# Altium schematic symbol library WR-TBL_Spring Clamp.SchLib: 257 symbols (part 3 of 4)
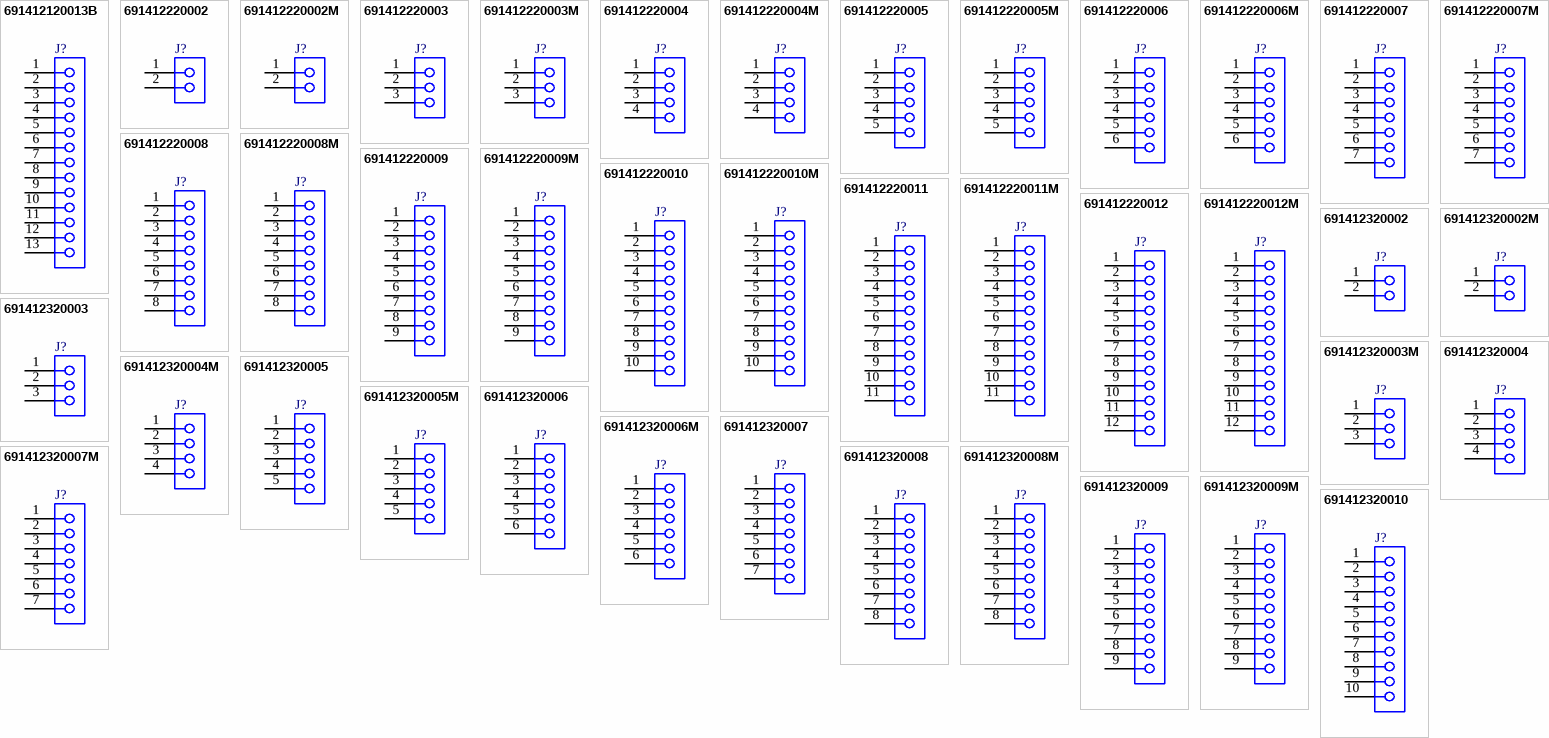
[diagram p8: symbols 691412120013B to 691412320010]

## 691412220012
designator J?
WR-TBL Serie 4122 45deg Entry, Screwless, pitch 7mm, 12p; Part Number: 691412220012; Compliance: Lead free / RoHS; Modularity: No; PCB/Cable/Panel: PCB; Pin Number: 12; Rated Current [UL]: 4A; Working Voltage [UL]: 300VAC; ComponentLink1Description: Manufacturer; ComponentLink1URL: http://www.we-online.de; ComponentLink2URL: https://katalog.we-online.de/em/datasheet/691412220012.pdf; ComponentLink2Description: Datasheet; Mounting Technology: THT; Packaging: Box; Operating Temperature: -30 to +120degC; Pitch: 7mm; Published Date: October 2019; Type: 45deg; Publisher: Wurth Elektronik; Application: Screwless
footprint 691412220012
pins: 1, 2, 3, 4, 5, 6, 7, 8, 9, 10, 11, 12

## 691412220012M
designator J?
WR-TBL Serie 4122M 45deg Entry, Screwless, pitch 7mm, 12p; Part Number: 691412220012M; Compliance: Lead free / RoHS; Modularity: No; PCB/Cable/Panel: PCB; Pin Number: 12; Rated Current [UL]: 4A; Working Voltage [UL]: 300VAC; ComponentLink1Description: Manufacturer; ComponentLink1URL: http://www.we-online.de; ComponentLink2URL: https://katalog.we-online.de/em/datasheet/691412220012M.pdf; ComponentLink2Description: Datasheet; Mounting Technology: THT; Packaging: Box; Operating Temperature: -30 to +120degC; Pitch: 7mm; Published Date: October 2019; Type: 45deg; Publisher: Wurth Elektronik; Application: Screwless
footprint 691412220012M
pins: 1, 2, 3, 4, 5, 6, 7, 8, 9, 10, 11, 12

## 691412320002
designator J?
WR-TBL Serie 4123 45deg Entry, Screwless, pitch 3.81mm, 2p; Part Number: 691412320002; Compliance: Lead free / RoHS; Modularity: No; PCB/Cable/Panel: PCB; Pin Number: 2; Rated Current [UL]: 4A; Working Voltage [UL]: 300VAC; ComponentLink1Description: Manufacturer; ComponentLink1URL: http://www.we-online.de; ComponentLink2URL: https://katalog.we-online.de/em/datasheet/691412320002.pdf; ComponentLink2Description: Datasheet; Mounting Technology: THT; Packaging: Box; Operating Temperature: -30 to +120degC; Pitch: 3.81mm; Published Date: October 2019; Type: 45deg; Publisher: Wurth Elektronik; Application: Screwless
footprint 691412320002
pins: 1, 2

## 691412320002M
designator J?
WR-TBL Serie 4123M 45deg Entry, Screwless, pitch 3.81mm, 2p; Part Number: 691412320002M; Compliance: Lead free / RoHS; Modularity: No; PCB/Cable/Panel: PCB; Pin Number: 2; Rated Current [UL]: 4A; Working Voltage [UL]: 300VAC; ComponentLink1Description: Manufacturer; ComponentLink1URL: http://www.we-online.de; ComponentLink2URL: https://katalog.we-online.de/em/datasheet/691412320002M.pdf; ComponentLink2Description: Datasheet; Mounting Technology: THT; Packaging: Box; Operating Temperature: -30 to +120degC; Pitch: 3.81mm; Published Date: October 2019; Type: 45deg; Publisher: Wurth Elektronik; Application: Screwless
footprint 691412320002M
pins: 1, 2

## 691412320003
designator J?
WR-TBL Serie 4123 45deg Entry, Screwless, pitch 3.81mm, 3p; Part Number: 691412320003; Compliance: Lead free / RoHS; Modularity: No; PCB/Cable/Panel: PCB; Pin Number: 3; Rated Current [UL]: 4A; Working Voltage [UL]: 300VAC; ComponentLink1Description: Manufacturer; ComponentLink1URL: http://www.we-online.de; ComponentLink2URL: https://katalog.we-online.de/em/datasheet/691412320003.pdf; ComponentLink2Description: Datasheet; Mounting Technology: THT; Packaging: Box; Operating Temperature: -30 to +120degC; Pitch: 3.81mm; Published Date: October 2019; Type: 45deg; Publisher: Wurth Elektronik; Application: Screwless
footprint 691412320003
pins: 1, 2, 3

## 691412320003M
designator J?
WR-TBL Serie 4123M 45deg Entry, Screwless, pitch 3.81mm, 3p; Part Number: 691412320003M; Compliance: Lead free / RoHS; Modularity: No; PCB/Cable/Panel: PCB; Pin Number: 3; Rated Current [UL]: 4A; Working Voltage [UL]: 300VAC; ComponentLink1Description: Manufacturer; ComponentLink1URL: http://www.we-online.de; ComponentLink2URL: https://katalog.we-online.de/em/datasheet/691412320003M.pdf; ComponentLink2Description: Datasheet; Mounting Technology: THT; Packaging: Box; Operating Temperature: -30 to +120degC; Pitch: 3.81mm; Published Date: October 2019; Type: 45deg; Publisher: Wurth Elektronik; Application: Screwless
footprint 691412320003M
pins: 1, 2, 3

## 691412320004
designator J?
WR-TBL Serie 4123 45deg Entry, Screwless, pitch 3.81mm, 4p; Part Number: 691412320004; Compliance: Lead free / RoHS; Modularity: No; PCB/Cable/Panel: PCB; Pin Number: 4; Rated Current [UL]: 4A; Working Voltage [UL]: 300VAC; ComponentLink1Description: Manufacturer; ComponentLink1URL: http://www.we-online.de; ComponentLink2URL: https://katalog.we-online.de/em/datasheet/691412320004.pdf; ComponentLink2Description: Datasheet; Mounting Technology: THT; Packaging: Box; Operating Temperature: -30 to +120degC; Pitch: 3.81mm; Published Date: October 2019; Type: 45deg; Publisher: Wurth Elektronik; Application: Screwless
footprint 691412320004
pins: 1, 2, 3, 4

## 691412320004M
designator J?
WR-TBL Serie 4123M 45deg Entry, Screwless, pitch 3.81mm, 4p; Part Number: 691412320004M; Compliance: Lead free / RoHS; Modularity: No; PCB/Cable/Panel: PCB; Pin Number: 4; Rated Current [UL]: 4A; Working Voltage [UL]: 300VAC; ComponentLink1Description: Manufacturer; ComponentLink1URL: http://www.we-online.de; ComponentLink2URL: https://katalog.we-online.de/em/datasheet/691412320004M.pdf; ComponentLink2Description: Datasheet; Mounting Technology: THT; Packaging: Box; Operating Temperature: -30 to +120degC; Pitch: 3.81mm; Published Date: October 2019; Type: 45deg; Publisher: Wurth Elektronik; Application: Screwless
footprint 691412320004M
pins: 1, 2, 3, 4

## 691412320005
designator J?
WR-TBL Serie 4123 45deg Entry, Screwless, pitch 3.81mm, 5p; Part Number: 691412320005; Compliance: Lead free / RoHS; Modularity: No; PCB/Cable/Panel: PCB; Pin Number: 5; Rated Current [UL]: 4A; Working Voltage [UL]: 300VAC; ComponentLink1Description: Manufacturer; ComponentLink1URL: http://www.we-online.de; ComponentLink2URL: https://katalog.we-online.de/em/datasheet/691412320005.pdf; ComponentLink2Description: Datasheet; Mounting Technology: THT; Packaging: Box; Operating Temperature: -30 to +120degC; Pitch: 3.81mm; Published Date: October 2019; Type: 45deg; Publisher: Wurth Elektronik; Application: Screwless
footprint 691412320005
pins: 1, 2, 3, 4, 5

## 691412320005M
designator J?
WR-TBL Serie 4123M 45deg Entry, Screwless, pitch 3.81mm, 5p; Part Number: 691412320005M; Compliance: Lead free / RoHS; Modularity: No; PCB/Cable/Panel: PCB; Pin Number: 5; Rated Current [UL]: 4A; Working Voltage [UL]: 300VAC; ComponentLink1Description: Manufacturer; ComponentLink1URL: http://www.we-online.de; ComponentLink2URL: https://katalog.we-online.de/em/datasheet/691412320005M.pdf; ComponentLink2Description: Datasheet; Mounting Technology: THT; Packaging: Box; Operating Temperature: -30 to +120degC; Pitch: 3.81mm; Published Date: October 2019; Type: 45deg; Publisher: Wurth Elektronik; Application: Screwless
footprint 691412320005M
pins: 1, 2, 3, 4, 5

## 691412320006
designator J?
WR-TBL Serie 4123 45deg Entry, Screwless, pitch 3.81mm, 6p; Part Number: 691412320006; Compliance: Lead free / RoHS; Modularity: No; PCB/Cable/Panel: PCB; Pin Number: 6; Rated Current [UL]: 4A; Working Voltage [UL]: 300VAC; ComponentLink1Description: Manufacturer; ComponentLink1URL: http://www.we-online.de; ComponentLink2URL: https://katalog.we-online.de/em/datasheet/691412320006.pdf; ComponentLink2Description: Datasheet; Mounting Technology: THT; Packaging: Box; Operating Temperature: -30 to +120degC; Pitch: 3.81mm; Published Date: October 2019; Type: 45deg; Publisher: Wurth Elektronik; Application: Screwless
footprint 691412320006
pins: 1, 2, 3, 4, 5, 6

## 691412320006M
designator J?
WR-TBL Serie 4123M 45deg Entry, Screwless, pitch 3.81mm, 6p; Part Number: 691412320006M; Compliance: Lead free / RoHS; Modularity: No; PCB/Cable/Panel: PCB; Pin Number: 6; Rated Current [UL]: 4A; Working Voltage [UL]: 300VAC; ComponentLink1Description: Manufacturer; ComponentLink1URL: http://www.we-online.de; ComponentLink2URL: https://katalog.we-online.de/em/datasheet/691412320006M.pdf; ComponentLink2Description: Datasheet; Mounting Technology: THT; Packaging: Box; Operating Temperature: -30 to +120degC; Pitch: 3.81mm; Published Date: October 2019; Type: 45deg; Publisher: Wurth Elektronik; Application: Screwless
footprint 691412320006M
pins: 1, 2, 3, 4, 5, 6

## 691412320007
designator J?
WR-TBL Serie 4123 45deg Entry, Screwless, pitch 3.81mm, 7p; Part Number: 691412320007; Compliance: Lead free / RoHS; Modularity: No; PCB/Cable/Panel: PCB; Pin Number: 7; Rated Current [UL]: 4A; Working Voltage [UL]: 300VAC; ComponentLink1Description: Manufacturer; ComponentLink1URL: http://www.we-online.de; ComponentLink2URL: https://katalog.we-online.de/em/datasheet/691412320007.pdf; ComponentLink2Description: Datasheet; Mounting Technology: THT; Packaging: Box; Operating Temperature: -30 to +120degC; Pitch: 3.81mm; Published Date: October 2019; Type: 45deg; Publisher: Wurth Elektronik; Application: Screwless
footprint 691412320007
pins: 1, 2, 3, 4, 5, 6, 7

## 691412320007M
designator J?
WR-TBL Serie 4123M 45deg Entry, Screwless, pitch 3.81mm, 7p; Part Number: 691412320007M; Compliance: Lead free / RoHS; Modularity: No; PCB/Cable/Panel: PCB; Pin Number: 7; Rated Current [UL]: 4A; Working Voltage [UL]: 300VAC; ComponentLink1Description: Manufacturer; ComponentLink1URL: http://www.we-online.de; ComponentLink2URL: https://katalog.we-online.de/em/datasheet/691412320007M.pdf; ComponentLink2Description: Datasheet; Mounting Technology: THT; Packaging: Box; Operating Temperature: -30 to +120degC; Pitch: 3.81mm; Published Date: October 2019; Type: 45deg; Publisher: Wurth Elektronik; Application: Screwless
footprint 691412320007M
pins: 1, 2, 3, 4, 5, 6, 7

## 691412320008
designator J?
WR-TBL Serie 4123 45deg Entry, Screwless, pitch 3.81mm, 8p; Part Number: 691412320008; Compliance: Lead free / RoHS; Modularity: No; PCB/Cable/Panel: PCB; Pin Number: 8; Rated Current [UL]: 4A; Working Voltage [UL]: 300VAC; ComponentLink1Description: Manufacturer; ComponentLink1URL: http://www.we-online.de; ComponentLink2URL: https://katalog.we-online.de/em/datasheet/691412320008.pdf; ComponentLink2Description: Datasheet; Mounting Technology: THT; Packaging: Box; Operating Temperature: -30 to +120degC; Pitch: 3.81mm; Published Date: October 2019; Type: 45deg; Publisher: Wurth Elektronik; Application: Screwless
footprint 691412320008
pins: 1, 2, 3, 4, 5, 6, 7, 8

## 691412320008M
designator J?
WR-TBL Serie 4123M 45deg Entry, Screwless, pitch 3.81mm, 8p; Part Number: 691412320008M; Compliance: Lead free / RoHS; Modularity: No; PCB/Cable/Panel: PCB; Pin Number: 8; Rated Current [UL]: 4A; Working Voltage [UL]: 300VAC; ComponentLink1Description: Manufacturer; ComponentLink1URL: http://www.we-online.de; ComponentLink2URL: https://katalog.we-online.de/em/datasheet/691412320008M.pdf; ComponentLink2Description: Datasheet; Mounting Technology: THT; Packaging: Box; Operating Temperature: -30 to +120degC; Pitch: 3.81mm; Published Date: October 2019; Type: 45deg; Publisher: Wurth Elektronik; Application: Screwless
footprint 691412320008M
pins: 1, 2, 3, 4, 5, 6, 7, 8

## 691412320009
designator J?
WR-TBL Serie 4123 45deg Entry, Screwless, pitch 3.81mm, 9p; Part Number: 691412320009; Compliance: Lead free / RoHS; Modularity: No; PCB/Cable/Panel: PCB; Pin Number: 9; Rated Current [UL]: 4A; Working Voltage [UL]: 300VAC; ComponentLink1Description: Manufacturer; ComponentLink1URL: http://www.we-online.de; ComponentLink2URL: https://katalog.we-online.de/em/datasheet/691412320009.pdf; ComponentLink2Description: Datasheet; Mounting Technology: THT; Packaging: Box; Operating Temperature: -30 to +120degC; Pitch: 3.81mm; Published Date: October 2019; Type: 45deg; Publisher: Wurth Elektronik; Application: Screwless
footprint 691412320009
pins: 1, 2, 3, 4, 5, 6, 7, 8, 9

## 691412320009M
designator J?
WR-TBL Serie 4123M 45deg Entry, Screwless, pitch 3.81mm, 9p; Part Number: 691412320009M; Compliance: Lead free / RoHS; Modularity: No; PCB/Cable/Panel: PCB; Pin Number: 9; Rated Current [UL]: 4A; Working Voltage [UL]: 300VAC; ComponentLink1Description: Manufacturer; ComponentLink1URL: http://www.we-online.de; ComponentLink2URL: https://katalog.we-online.de/em/datasheet/691412320009M.pdf; ComponentLink2Description: Datasheet; Mounting Technology: THT; Packaging: Box; Operating Temperature: -30 to +120degC; Pitch: 3.81mm; Published Date: October 2019; Type: 45deg; Publisher: Wurth Elektronik; Application: Screwless
footprint 691412320009M
pins: 1, 2, 3, 4, 5, 6, 7, 8, 9

## 691412320010
designator J?
WR-TBL Serie 4123 45deg Entry, Screwless, pitch 3.81mm, 10p; Part Number: 691412320010; Compliance: Lead free / RoHS; Modularity: No; PCB/Cable/Panel: PCB; Pin Number: 10; Rated Current [UL]: 4A; Working Voltage [UL]: 300VAC; ComponentLink1Description: Manufacturer; ComponentLink1URL: http://www.we-online.de; ComponentLink2URL: https://katalog.we-online.de/em/datasheet/691412320010.pdf; ComponentLink2Description: Datasheet; Mounting Technology: THT; Packaging: Box; Operating Temperature: -30 to +120degC; Pitch: 3.81mm; Published Date: October 2019; Type: 45deg; Publisher: Wurth Elektronik; Application: Screwless
footprint 691412320010
pins: 1, 2, 3, 4, 5, 6, 7, 8, 9, 10

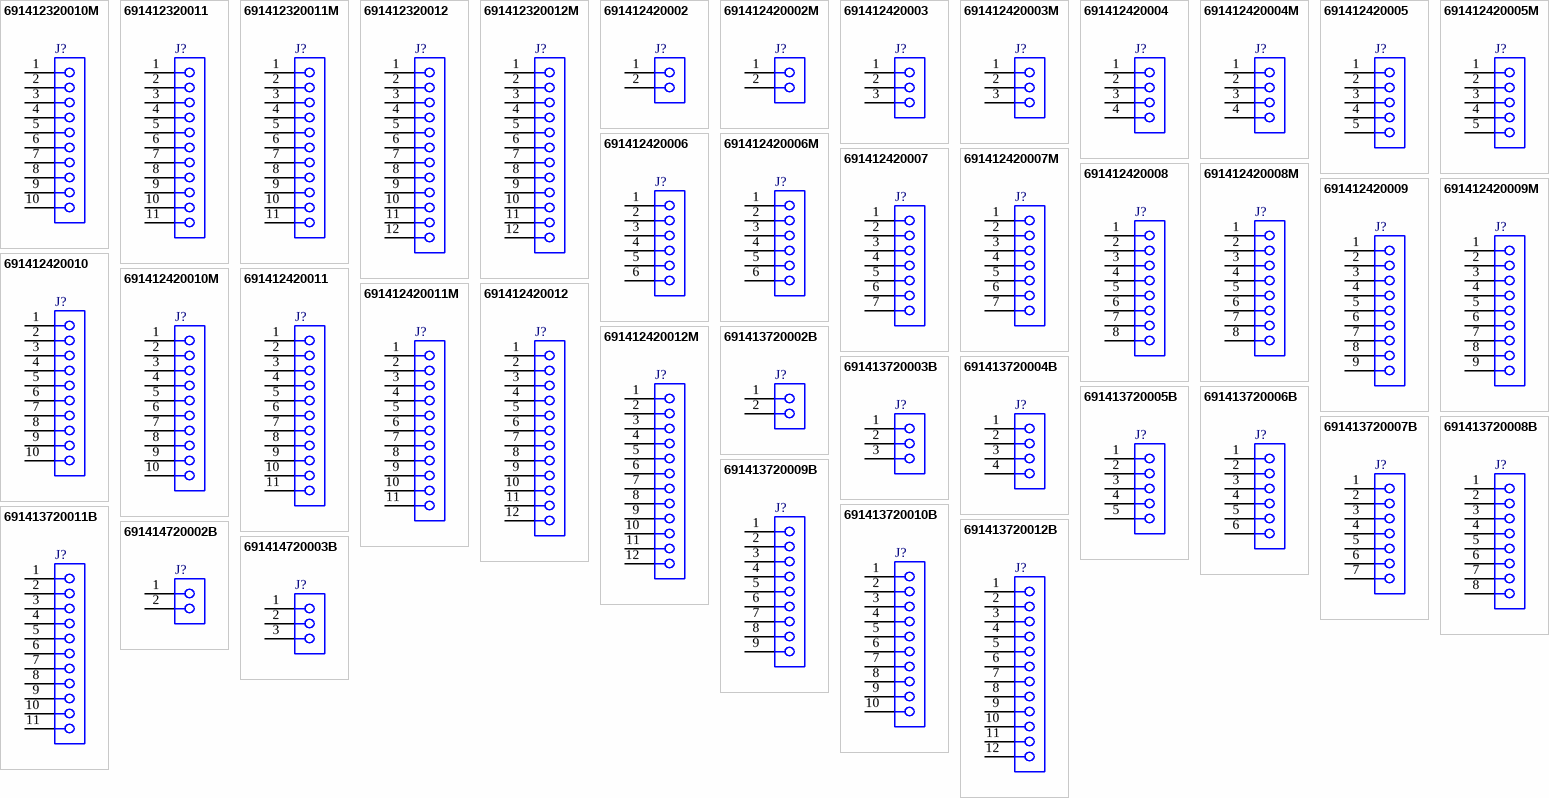
[diagram p4: symbols 691412320010M to 691414720003B]

## 691412320010M
designator J?
WR-TBL Serie 4123M 45deg Entry, Screwless, pitch 3.81mm, 10p; Part Number: 691412320010M; Compliance: Lead free / RoHS; Modularity: No; PCB/Cable/Panel: PCB; Pin Number: 10; Rated Current [UL]: 4A; Working Voltage [UL]: 300VAC; ComponentLink1Description: Manufacturer; ComponentLink1URL: http://www.we-online.de; ComponentLink2URL: https://katalog.we-online.de/em/datasheet/691412320010M.pdf; ComponentLink2Description: Datasheet; Mounting Technology: THT; Packaging: Box; Operating Temperature: -30 to +120degC; Pitch: 3.81mm; Published Date: October 2019; Type: 45deg; Publisher: Wurth Elektronik; Application: Screwless
footprint 691412320010M
pins: 1, 2, 3, 4, 5, 6, 7, 8, 9, 10

## 691412320011
designator J?
WR-TBL Serie 4123 45deg Entry, Screwless, pitch 3.81mm, 11p; Part Number: 691412320011; Compliance: Lead free / RoHS; Modularity: No; PCB/Cable/Panel: PCB; Pin Number: 11; Rated Current [UL]: 4A; Working Voltage [UL]: 300VAC; ComponentLink1Description: Manufacturer; ComponentLink1URL: http://www.we-online.de; ComponentLink2URL: https://katalog.we-online.de/em/datasheet/691412320011.pdf; ComponentLink2Description: Datasheet; Mounting Technology: THT; Packaging: Box; Operating Temperature: -30 to +120degC; Pitch: 3.81mm; Published Date: October 2019; Type: 45deg; Publisher: Wurth Elektronik; Application: Screwless
footprint 691412320011
pins: 1, 2, 3, 4, 5, 6, 7, 8, 9, 10, 11

## 691412320011M
designator J?
WR-TBL Serie 4123M 45deg Entry, Screwless, pitch 3.81mm, 11p; Part Number: 691412320011M; Compliance: Lead free / RoHS; Modularity: No; PCB/Cable/Panel: PCB; Pin Number: 11; Rated Current [UL]: 4A; Working Voltage [UL]: 300VAC; ComponentLink1Description: Manufacturer; ComponentLink1URL: http://www.we-online.de; ComponentLink2URL: https://katalog.we-online.de/em/datasheet/691412320011M.pdf; ComponentLink2Description: Datasheet; Mounting Technology: THT; Packaging: Box; Operating Temperature: -30 to +120degC; Pitch: 3.81mm; Published Date: October 2019; Type: 45deg; Publisher: Wurth Elektronik; Application: Screwless
footprint 691412320011M
pins: 1, 2, 3, 4, 5, 6, 7, 8, 9, 10, 11

## 691412320012
designator J?
WR-TBL Serie 4123 45deg Entry, Screwless, pitch 3.81mm, 12p; Part Number: 691412320012; Compliance: Lead free / RoHS; Modularity: No; PCB/Cable/Panel: PCB; Pin Number: 12; Rated Current [UL]: 4A; Working Voltage [UL]: 300VAC; ComponentLink1Description: Manufacturer; ComponentLink1URL: http://www.we-online.de; ComponentLink2URL: https://katalog.we-online.de/em/datasheet/691412320012.pdf; ComponentLink2Description: Datasheet; Mounting Technology: THT; Packaging: Box; Operating Temperature: -30 to +120degC; Pitch: 3.81mm; Published Date: October 2019; Type: 45deg; Publisher: Wurth Elektronik; Application: Screwless
footprint 691412320012
pins: 1, 2, 3, 4, 5, 6, 7, 8, 9, 10, 11, 12

## 691412320012M
designator J?
WR-TBL Serie 4123M 45deg Entry, Screwless, pitch 3.81mm, 12p; Part Number: 691412320012M; Compliance: Lead free / RoHS; Modularity: No; PCB/Cable/Panel: PCB; Pin Number: 12; Rated Current [UL]: 4A; Working Voltage [UL]: 300VAC; ComponentLink1Description: Manufacturer; ComponentLink1URL: http://www.we-online.de; ComponentLink2URL: https://katalog.we-online.de/em/datasheet/691412320012M.pdf; ComponentLink2Description: Datasheet; Mounting Technology: THT; Packaging: Box; Operating Temperature: -30 to +120degC; Pitch: 3.81mm; Published Date: October 2019; Type: 45deg; Publisher: Wurth Elektronik; Application: Screwless
footprint 691412320012M
pins: 1, 2, 3, 4, 5, 6, 7, 8, 9, 10, 11, 12

## 691412420002
designator J?
WR-TBL Serie 4124 45deg Entry, Screwless, pitch 7.62mm, 2p; Part Number: 691412420002; Compliance: Lead free / RoHS; Modularity: No; PCB/Cable/Panel: PCB; Pin Number: 2; Rated Current [UL]: 4A; Working Voltage [UL]: 300VAC; ComponentLink1Description: Manufacturer; ComponentLink1URL: http://www.we-online.de; ComponentLink2URL: https://katalog.we-online.de/em/datasheet/691412420002.pdf; ComponentLink2Description: Datasheet; Mounting Technology: THT; Packaging: Box; Operating Temperature: -30 to +120degC; Pitch: 7.62mm; Published Date: October 2019; Type: 45deg; Publisher: Wurth Elektronik; Application: Screwless
footprint 691412420002
pins: 1, 2

## 691412420002M
designator J?
WR-TBL Serie 4124M 45deg Entry, Screwless, pitch 7.62mm, 2p; Part Number: 691412420002M; Compliance: Lead free / RoHS; Modularity: No; PCB/Cable/Panel: PCB; Pin Number: 2; Rated Current [UL]: 4A; Working Voltage [UL]: 300VAC; ComponentLink1Description: Manufacturer; ComponentLink1URL: http://www.we-online.de; ComponentLink2URL: https://katalog.we-online.de/em/datasheet/691412420002M.pdf; ComponentLink2Description: Datasheet; Mounting Technology: THT; Packaging: Box; Operating Temperature: -30 to +120degC; Pitch: 7.62mm; Published Date: October 2019; Type: 45deg; Publisher: Wurth Elektronik; Application: Screwless
footprint 691412420002M
pins: 1, 2

## 691412420003
designator J?
WR-TBL Serie 4124 45deg Entry, Screwless, pitch 7.62mm, 3p; Part Number: 691412420003; Compliance: Lead free / RoHS; Modularity: No; PCB/Cable/Panel: PCB; Pin Number: 3; Rated Current [UL]: 4A; Working Voltage [UL]: 300VAC; ComponentLink1Description: Manufacturer; ComponentLink1URL: http://www.we-online.de; ComponentLink2URL: https://katalog.we-online.de/em/datasheet/691412420003.pdf; ComponentLink2Description: Datasheet; Mounting Technology: THT; Packaging: Box; Operating Temperature: -30 to +120degC; Pitch: 7.62mm; Published Date: October 2019; Type: 45deg; Publisher: Wurth Elektronik; Application: Screwless
footprint 691412420003
pins: 1, 2, 3

## 691412420003M
designator J?
WR-TBL Serie 4124M 45deg Entry, Screwless, pitch 7.62mm, 3p; Part Number: 691412420003M; Compliance: Lead free / RoHS; Modularity: No; PCB/Cable/Panel: PCB; Pin Number: 3; Rated Current [UL]: 4A; Working Voltage [UL]: 300VAC; ComponentLink1Description: Manufacturer; ComponentLink1URL: http://www.we-online.de; ComponentLink2URL: https://katalog.we-online.de/em/datasheet/691412420003M.pdf; ComponentLink2Description: Datasheet; Mounting Technology: THT; Packaging: Box; Operating Temperature: -30 to +120degC; Pitch: 7.62mm; Published Date: October 2019; Type: 45deg; Publisher: Wurth Elektronik; Application: Screwless
footprint 691412420003M
pins: 1, 2, 3

## 691412420004
designator J?
WR-TBL Serie 4124 45deg Entry, Screwless, pitch 7.62mm, 4p; Part Number: 691412420004; Compliance: Lead free / RoHS; Modularity: No; PCB/Cable/Panel: PCB; Pin Number: 4; Rated Current [UL]: 4A; Working Voltage [UL]: 300VAC; ComponentLink1Description: Manufacturer; ComponentLink1URL: http://www.we-online.de; ComponentLink2URL: https://katalog.we-online.de/em/datasheet/691412420004.pdf; ComponentLink2Description: Datasheet; Mounting Technology: THT; Packaging: Box; Operating Temperature: -30 to +120degC; Pitch: 7.62mm; Published Date: October 2019; Type: 45deg; Publisher: Wurth Elektronik; Application: Screwless
footprint 691412420004
pins: 1, 2, 3, 4

## 691412420004M
designator J?
WR-TBL Serie 4124M 45deg Entry, Screwless, pitch 7.62mm, 4p; Part Number: 691412420004M; Compliance: Lead free / RoHS; Modularity: No; PCB/Cable/Panel: PCB; Pin Number: 4; Rated Current [UL]: 4A; Working Voltage [UL]: 300VAC; ComponentLink1Description: Manufacturer; ComponentLink1URL: http://www.we-online.de; ComponentLink2URL: https://katalog.we-online.de/em/datasheet/691412420004M.pdf; ComponentLink2Description: Datasheet; Mounting Technology: THT; Packaging: Box; Operating Temperature: -30 to +120degC; Pitch: 7.62mm; Published Date: October 2019; Type: 45deg; Publisher: Wurth Elektronik; Application: Screwless
footprint 691412420004M
pins: 1, 2, 3, 4

## 691412420005
designator J?
WR-TBL Serie 4124 45deg Entry, Screwless, pitch 7.62mm, 5p; Part Number: 691412420005; Compliance: Lead free / RoHS; Modularity: No; PCB/Cable/Panel: PCB; Pin Number: 5; Rated Current [UL]: 4A; Working Voltage [UL]: 300VAC; ComponentLink1Description: Manufacturer; ComponentLink1URL: http://www.we-online.de; ComponentLink2URL: https://katalog.we-online.de/em/datasheet/691412420005.pdf; ComponentLink2Description: Datasheet; Mounting Technology: THT; Packaging: Box; Operating Temperature: -30 to +120degC; Pitch: 7.62mm; Published Date: October 2019; Type: 45deg; Publisher: Wurth Elektronik; Application: Screwless
footprint 691412420005
pins: 1, 2, 3, 4, 5

## 691412420005M
designator J?
WR-TBL Serie 4124M 45deg Entry, Screwless, pitch 7.62mm, 5p; Part Number: 691412420005M; Compliance: Lead free / RoHS; Modularity: No; PCB/Cable/Panel: PCB; Pin Number: 5; Rated Current [UL]: 4A; Working Voltage [UL]: 300VAC; ComponentLink1Description: Manufacturer; ComponentLink1URL: http://www.we-online.de; ComponentLink2URL: https://katalog.we-online.de/em/datasheet/691412420005M.pdf; ComponentLink2Description: Datasheet; Mounting Technology: THT; Packaging: Box; Operating Temperature: -30 to +120degC; Pitch: 7.62mm; Published Date: October 2019; Type: 45deg; Publisher: Wurth Elektronik; Application: Screwless
footprint 691412420005M
pins: 1, 2, 3, 4, 5

## 691412420006
designator J?
WR-TBL Serie 4124 45deg Entry, Screwless, pitch 7.62mm, 6p; Part Number: 691412420006; Compliance: Lead free / RoHS; Modularity: No; PCB/Cable/Panel: PCB; Pin Number: 6; Rated Current [UL]: 4A; Working Voltage [UL]: 300VAC; ComponentLink1Description: Manufacturer; ComponentLink1URL: http://www.we-online.de; ComponentLink2URL: https://katalog.we-online.de/em/datasheet/691412420006.pdf; ComponentLink2Description: Datasheet; Mounting Technology: THT; Packaging: Box; Operating Temperature: -30 to +120degC; Pitch: 7.62mm; Published Date: October 2019; Type: 45deg; Publisher: Wurth Elektronik; Application: Screwless
footprint 691412420006
pins: 1, 2, 3, 4, 5, 6

## 691412420006M
designator J?
WR-TBL Serie 4124M 45deg Entry, Screwless, pitch 7.62mm, 6p; Part Number: 691412420006M; Compliance: Lead free / RoHS; Modularity: No; PCB/Cable/Panel: PCB; Pin Number: 6; Rated Current [UL]: 4A; Working Voltage [UL]: 300VAC; ComponentLink1Description: Manufacturer; ComponentLink1URL: http://www.we-online.de; ComponentLink2URL: https://katalog.we-online.de/em/datasheet/691412420006M.pdf; ComponentLink2Description: Datasheet; Mounting Technology: THT; Packaging: Box; Operating Temperature: -30 to +120degC; Pitch: 7.62mm; Published Date: October 2019; Type: 45deg; Publisher: Wurth Elektronik; Application: Screwless
footprint 691412420006M
pins: 1, 2, 3, 4, 5, 6

## 691412420007
designator J?
WR-TBL Serie 4124 45deg Entry, Screwless, pitch 7.62mm, 7p; Part Number: 691412420007; Compliance: Lead free / RoHS; Modularity: No; PCB/Cable/Panel: PCB; Pin Number: 7; Rated Current [UL]: 4A; Working Voltage [UL]: 300VAC; ComponentLink1Description: Manufacturer; ComponentLink1URL: http://www.we-online.de; ComponentLink2URL: https://katalog.we-online.de/em/datasheet/691412420007.pdf; ComponentLink2Description: Datasheet; Mounting Technology: THT; Packaging: Box; Operating Temperature: -30 to +120degC; Pitch: 7.62mm; Published Date: October 2019; Type: 45deg; Publisher: Wurth Elektronik; Application: Screwless
footprint 691412420007
pins: 1, 2, 3, 4, 5, 6, 7

## 691412420007M
designator J?
WR-TBL Serie 4124M 45deg Entry, Screwless, pitch 7.62mm, 7p; Part Number: 691412420007M; Compliance: Lead free / RoHS; Modularity: No; PCB/Cable/Panel: PCB; Pin Number: 7; Rated Current [UL]: 4A; Working Voltage [UL]: 300VAC; ComponentLink1Description: Manufacturer; ComponentLink1URL: http://www.we-online.de; ComponentLink2URL: https://katalog.we-online.de/em/datasheet/691412420007M.pdf; ComponentLink2Description: Datasheet; Mounting Technology: THT; Packaging: Box; Operating Temperature: -30 to +120degC; Pitch: 7.62mm; Published Date: October 2019; Type: 45deg; Publisher: Wurth Elektronik; Application: Screwless
footprint 691412420007M
pins: 1, 2, 3, 4, 5, 6, 7

## 691412420008
designator J?
WR-TBL Serie 4124 45deg Entry, Screwless, pitch 7.62mm, 8p; Part Number: 691412420008; Compliance: Lead free / RoHS; Modularity: No; PCB/Cable/Panel: PCB; Pin Number: 8; Rated Current [UL]: 4A; Working Voltage [UL]: 300VAC; ComponentLink1Description: Manufacturer; ComponentLink1URL: http://www.we-online.de; ComponentLink2URL: https://katalog.we-online.de/em/datasheet/691412420008.pdf; ComponentLink2Description: Datasheet; Mounting Technology: THT; Packaging: Box; Operating Temperature: -30 to +120degC; Pitch: 7.62mm; Published Date: October 2019; Type: 45deg; Publisher: Wurth Elektronik; Application: Screwless
footprint 691412420008
pins: 1, 2, 3, 4, 5, 6, 7, 8

## 691412420008M
designator J?
WR-TBL Serie 4124M 45deg Entry, Screwless, pitch 7.62mm, 8p; Part Number: 691412420008M; Compliance: Lead free / RoHS; Modularity: No; PCB/Cable/Panel: PCB; Pin Number: 8; Rated Current [UL]: 4A; Working Voltage [UL]: 300VAC; ComponentLink1Description: Manufacturer; ComponentLink1URL: http://www.we-online.de; ComponentLink2URL: https://katalog.we-online.de/em/datasheet/691412420008M.pdf; ComponentLink2Description: Datasheet; Mounting Technology: THT; Packaging: Box; Operating Temperature: -30 to +120degC; Pitch: 7.62mm; Published Date: October 2019; Type: 45deg; Publisher: Wurth Elektronik; Application: Screwless
footprint 691412420008M
pins: 1, 2, 3, 4, 5, 6, 7, 8

## 691412420009
designator J?
WR-TBL Serie 4124 45deg Entry, Screwless, pitch 7.62mm, 9p; Part Number: 691412420009; Compliance: Lead free / RoHS; Modularity: No; PCB/Cable/Panel: PCB; Pin Number: 9; Rated Current [UL]: 4A; Working Voltage [UL]: 300VAC; ComponentLink1Description: Manufacturer; ComponentLink1URL: http://www.we-online.de; ComponentLink2URL: https://katalog.we-online.de/em/datasheet/691412420009.pdf; ComponentLink2Description: Datasheet; Mounting Technology: THT; Packaging: Box; Operating Temperature: -30 to +120degC; Pitch: 7.62mm; Published Date: October 2019; Type: 45deg; Publisher: Wurth Elektronik; Application: Screwless
footprint 691412420009
pins: 1, 2, 3, 4, 5, 6, 7, 8, 9

## 691412420009M
designator J?
WR-TBL Serie 4124M 45deg Entry, Screwless, pitch 7.62mm, 9p; Part Number: 691412420009M; Compliance: Lead free / RoHS; Modularity: No; PCB/Cable/Panel: PCB; Pin Number: 9; Rated Current [UL]: 4A; Working Voltage [UL]: 300VAC; ComponentLink1Description: Manufacturer; ComponentLink1URL: http://www.we-online.de; ComponentLink2URL: https://katalog.we-online.de/em/datasheet/691412420009M.pdf; ComponentLink2Description: Datasheet; Mounting Technology: THT; Packaging: Box; Operating Temperature: -30 to +120degC; Pitch: 7.62mm; Published Date: October 2019; Type: 45deg; Publisher: Wurth Elektronik; Application: Screwless
footprint 691412420009M
pins: 1, 2, 3, 4, 5, 6, 7, 8, 9

## 691412420010
designator J?
WR-TBL Serie 4124 45deg Entry, Screwless, pitch 7.62mm, 10p; Part Number: 691412420010; Compliance: Lead free / RoHS; Modularity: No; PCB/Cable/Panel: PCB; Pin Number: 10; Rated Current [UL]: 4A; Working Voltage [UL]: 300VAC; ComponentLink1Description: Manufacturer; ComponentLink1URL: http://www.we-online.de; ComponentLink2URL: https://katalog.we-online.de/em/datasheet/691412420010.pdf; ComponentLink2Description: Datasheet; Mounting Technology: THT; Packaging: Box; Operating Temperature: -30 to +120degC; Pitch: 7.62mm; Published Date: October 2019; Type: 45deg; Publisher: Wurth Elektronik; Application: Screwless
footprint 691412420010
pins: 1, 2, 3, 4, 5, 6, 7, 8, 9, 10

## 691412420010M
designator J?
WR-TBL Serie 4124M 45deg Entry, Screwless, pitch 7.62mm, 10p; Part Number: 691412420010M; Compliance: Lead free / RoHS; Modularity: No; PCB/Cable/Panel: PCB; Pin Number: 10; Rated Current [UL]: 4A; Working Voltage [UL]: 300VAC; ComponentLink1Description: Manufacturer; ComponentLink1URL: http://www.we-online.de; ComponentLink2URL: https://katalog.we-online.de/em/datasheet/691412420010M.pdf; ComponentLink2Description: Datasheet; Mounting Technology: THT; Packaging: Box; Operating Temperature: -30 to +120degC; Pitch: 7.62mm; Published Date: October 2019; Type: 45deg; Publisher: Wurth Elektronik; Application: Screwless
footprint 691412420010M
pins: 1, 2, 3, 4, 5, 6, 7, 8, 9, 10

## 691412420011
designator J?
WR-TBL Serie 4124 45deg Entry, Screwless, pitch 7.62mm, 11p; Part Number: 691412420011; Compliance: Lead free / RoHS; Modularity: No; PCB/Cable/Panel: PCB; Pin Number: 11; Rated Current [UL]: 4A; Working Voltage [UL]: 300VAC; ComponentLink1Description: Manufacturer; ComponentLink1URL: http://www.we-online.de; ComponentLink2URL: https://katalog.we-online.de/em/datasheet/691412420011.pdf; ComponentLink2Description: Datasheet; Mounting Technology: THT; Packaging: Box; Operating Temperature: -30 to +120degC; Pitch: 7.62mm; Published Date: October 2019; Type: 45deg; Publisher: Wurth Elektronik; Application: Screwless
footprint 691412420011
pins: 1, 2, 3, 4, 5, 6, 7, 8, 9, 10, 11

## 691412420011M
designator J?
WR-TBL Serie 4124M 45deg Entry, Screwless, pitch 7.62mm, 11p; Part Number: 691412420011M; Compliance: Lead free / RoHS; Modularity: No; PCB/Cable/Panel: PCB; Pin Number: 11; Rated Current [UL]: 4A; Working Voltage [UL]: 300VAC; ComponentLink1Description: Manufacturer; ComponentLink1URL: http://www.we-online.de; ComponentLink2URL: https://katalog.we-online.de/em/datasheet/691412420011M.pdf; ComponentLink2Description: Datasheet; Mounting Technology: THT; Packaging: Box; Operating Temperature: -30 to +120degC; Pitch: 7.62mm; Published Date: October 2019; Type: 45deg; Publisher: Wurth Elektronik; Application: Screwless
footprint 691412420011M
pins: 1, 2, 3, 4, 5, 6, 7, 8, 9, 10, 11

## 691412420012
designator J?
WR-TBL Serie 4124 45deg Entry, Screwless, pitch 7.62mm, 12p; Part Number: 691412420012; Compliance: Lead free / RoHS; Modularity: No; PCB/Cable/Panel: PCB; Pin Number: 12; Rated Current [UL]: 4A; Working Voltage [UL]: 300VAC; ComponentLink1Description: Manufacturer; ComponentLink1URL: http://www.we-online.de; ComponentLink2URL: https://katalog.we-online.de/em/datasheet/691412420012.pdf; ComponentLink2Description: Datasheet; Mounting Technology: THT; Packaging: Box; Operating Temperature: -30 to +120degC; Pitch: 7.62mm; Published Date: October 2019; Type: 45deg; Publisher: Wurth Elektronik; Application: Screwless
footprint 691412420012
pins: 1, 2, 3, 4, 5, 6, 7, 8, 9, 10, 11, 12

## 691412420012M
designator J?
WR-TBL Serie 4124M 45deg Entry, Screwless, pitch 7.62mm, 12p; Part Number: 691412420012M; Compliance: Lead free / RoHS; Modularity: No; PCB/Cable/Panel: PCB; Pin Number: 12; Rated Current [UL]: 4A; Working Voltage [UL]: 300VAC; ComponentLink1Description: Manufacturer; ComponentLink1URL: http://www.we-online.de; ComponentLink2URL: https://katalog.we-online.de/em/datasheet/691412420012M.pdf; ComponentLink2Description: Datasheet; Mounting Technology: THT; Packaging: Box; Operating Temperature: -30 to +120degC; Pitch: 7.62mm; Published Date: October 2019; Type: 45deg; Publisher: Wurth Elektronik; Application: Screwless
footprint 691412420012M
pins: 1, 2, 3, 4, 5, 6, 7, 8, 9, 10, 11, 12

## 691413720002B
designator J?
WR-TBL Serie 413B 45deg Entry, Screwless, pitch 5mm, 2p; Part Number: 691413720002B; Compliance: RoHS; Modularity: No; PCB/Cable/Panel: PCB; Pin Number: 2; Rated Current [UL]: 15A; Working Voltage [UL]: 300VAC; ComponentLink1Description: Manufacturer; ComponentLink1URL: http://www.we-online.de; ComponentLink2URL: https://katalog.we-online.de/em/datasheet/691413720002B.pdf; ComponentLink2Description: Datasheet; Mounting Technology: THT; Packaging: Box; Operating Temperature: -40 to +115degC; Pitch: 5mm; Published Date: October 2019; Type: 45deg; Publisher: Wurth Elektronik; Application: Screwless
footprint 691413720002B
pins: 1, 2

## 691413720003B
designator J?
WR-TBL Serie 413B 45deg Entry, Screwless, pitch 5mm, 3p; Part Number: 691413720003B; Compliance: RoHS; Modularity: No; PCB/Cable/Panel: PCB; Pin Number: 3; Rated Current [UL]: 15A; Working Voltage [UL]: 300VAC; ComponentLink1Description: Manufacturer; ComponentLink1URL: http://www.we-online.de; ComponentLink2URL: https://katalog.we-online.de/em/datasheet/691413720003B.pdf; ComponentLink2Description: Datasheet; Mounting Technology: THT; Packaging: Box; Operating Temperature: -40 to +115degC; Pitch: 5mm; Published Date: October 2019; Type: 45deg; Publisher: Wurth Elektronik; Application: Screwless
footprint 691413720003B
pins: 1, 2, 3

## 691413720004B
designator J?
WR-TBL Serie 413B 45deg Entry, Screwless, pitch 5mm, 4p; Part Number: 691413720004B; Compliance: RoHS; Modularity: No; PCB/Cable/Panel: PCB; Pin Number: 4; Rated Current [UL]: 15A; Working Voltage [UL]: 300VAC; ComponentLink1Description: Manufacturer; ComponentLink1URL: http://www.we-online.de; ComponentLink2URL: https://katalog.we-online.de/em/datasheet/691413720004B.pdf; ComponentLink2Description: Datasheet; Mounting Technology: THT; Packaging: Box; Operating Temperature: -40 to +115degC; Pitch: 5mm; Published Date: October 2019; Type: 45deg; Publisher: Wurth Elektronik; Application: Screwless
footprint 691413720004B
pins: 1, 2, 3, 4

## 691413720005B
designator J?
WR-TBL Serie 413B 45deg Entry, Screwless, pitch 5mm, 5p; Part Number: 691413720005B; Compliance: RoHS; Modularity: No; PCB/Cable/Panel: PCB; Pin Number: 5; Rated Current [UL]: 15A; Working Voltage [UL]: 300VAC; ComponentLink1Description: Manufacturer; ComponentLink1URL: http://www.we-online.de; ComponentLink2URL: https://katalog.we-online.de/em/datasheet/691413720005B.pdf; ComponentLink2Description: Datasheet; Mounting Technology: THT; Packaging: Box; Operating Temperature: -40 to +115degC; Pitch: 5mm; Published Date: October 2019; Type: 45deg; Publisher: Wurth Elektronik; Application: Screwless
footprint 691413720005B
pins: 1, 2, 3, 4, 5

## 691413720006B
designator J?
WR-TBL Serie 413B 45deg Entry, Screwless, pitch 5mm, 6p; Part Number: 691413720006B; Compliance: RoHS; Modularity: No; PCB/Cable/Panel: PCB; Pin Number: 6; Rated Current [UL]: 15A; Working Voltage [UL]: 300VAC; ComponentLink1Description: Manufacturer; ComponentLink1URL: http://www.we-online.de; ComponentLink2URL: https://katalog.we-online.de/em/datasheet/691413720006B.pdf; ComponentLink2Description: Datasheet; Mounting Technology: THT; Packaging: Box; Operating Temperature: -40 to +115degC; Pitch: 5mm; Published Date: October 2019; Type: 45deg; Publisher: Wurth Elektronik; Application: Screwless
footprint 691413720006B
pins: 1, 2, 3, 4, 5, 6

## 691413720007B
designator J?
WR-TBL Serie 413B 45deg Entry, Screwless, pitch 5mm, 7p; Part Number: 691413720007B; Compliance: RoHS; Modularity: No; PCB/Cable/Panel: PCB; Pin Number: 7; Rated Current [UL]: 15A; Working Voltage [UL]: 300VAC; ComponentLink1Description: Manufacturer; ComponentLink1URL: http://www.we-online.de; ComponentLink2URL: https://katalog.we-online.de/em/datasheet/691413720007B.pdf; ComponentLink2Description: Datasheet; Mounting Technology: THT; Packaging: Box; Operating Temperature: -40 to +115degC; Pitch: 5mm; Published Date: October 2019; Type: 45deg; Publisher: Wurth Elektronik; Application: Screwless
footprint 691413720007B
pins: 1, 2, 3, 4, 5, 6, 7

## 691413720008B
designator J?
WR-TBL Serie 413B 45deg Entry, Screwless, pitch 5mm, 8p; Part Number: 691413720008B; Compliance: RoHS; Modularity: No; PCB/Cable/Panel: PCB; Pin Number: 8; Rated Current [UL]: 15A; Working Voltage [UL]: 300VAC; ComponentLink1Description: Manufacturer; ComponentLink1URL: http://www.we-online.de; ComponentLink2URL: https://katalog.we-online.de/em/datasheet/691413720008B.pdf; ComponentLink2Description: Datasheet; Mounting Technology: THT; Packaging: Box; Operating Temperature: -40 to +115degC; Pitch: 5mm; Published Date: October 2019; Type: 45deg; Publisher: Wurth Elektronik; Application: Screwless
footprint 691413720008B
pins: 1, 2, 3, 4, 5, 6, 7, 8

## 691413720009B
designator J?
WR-TBL Serie 413B 45deg Entry, Screwless, pitch 5mm, 9p; Part Number: 691413720009B; Compliance: RoHS; Modularity: No; PCB/Cable/Panel: PCB; Pin Number: 9; Rated Current [UL]: 15A; Working Voltage [UL]: 300VAC; ComponentLink1Description: Manufacturer; ComponentLink1URL: http://www.we-online.de; ComponentLink2URL: https://katalog.we-online.de/em/datasheet/691413720009B.pdf; ComponentLink2Description: Datasheet; Mounting Technology: THT; Packaging: Box; Operating Temperature: -40 to +115degC; Pitch: 5mm; Published Date: October 2019; Type: 45deg; Publisher: Wurth Elektronik; Application: Screwless
footprint 691413720009B
pins: 1, 2, 3, 4, 5, 6, 7, 8, 9

## 691413720010B
designator J?
WR-TBL Serie 413B 45deg Entry, Screwless, pitch 5mm, 10p; Part Number: 691413720010B; Compliance: RoHS; Modularity: No; PCB/Cable/Panel: PCB; Pin Number: 10; Rated Current [UL]: 15A; Working Voltage [UL]: 300VAC; ComponentLink1Description: Manufacturer; ComponentLink1URL: http://www.we-online.de; ComponentLink2URL: https://katalog.we-online.de/em/datasheet/691413720010B.pdf; ComponentLink2Description: Datasheet; Mounting Technology: THT; Packaging: Box; Operating Temperature: -40 to +115degC; Pitch: 5mm; Published Date: October 2019; Type: 45deg; Publisher: Wurth Elektronik; Application: Screwless
footprint 691413720010B
pins: 1, 2, 3, 4, 5, 6, 7, 8, 9, 10

## 691413720011B
designator J?
WR-TBL Serie 413B 45deg Entry, Screwless, pitch 5mm, 11p; Part Number: 691413720011B; Compliance: RoHS; Modularity: No; PCB/Cable/Panel: PCB; Pin Number: 11; Rated Current [UL]: 15A; Working Voltage [UL]: 300VAC; ComponentLink1Description: Manufacturer; ComponentLink1URL: http://www.we-online.de; ComponentLink2URL: https://katalog.we-online.de/em/datasheet/691413720011B.pdf; ComponentLink2Description: Datasheet; Mounting Technology: THT; Packaging: Box; Operating Temperature: -40 to +115degC; Pitch: 5mm; Published Date: October 2019; Type: 45deg; Publisher: Wurth Elektronik; Application: Screwless
footprint 691413720011B
pins: 1, 2, 3, 4, 5, 6, 7, 8, 9, 10, 11

## 691413720012B
designator J?
WR-TBL Serie 413B 45deg Entry, Screwless, pitch 5mm, 12p; Part Number: 691413720012B; Compliance: RoHS; Modularity: No; PCB/Cable/Panel: PCB; Pin Number: 12; Rated Current [UL]: 15A; Working Voltage [UL]: 300VAC; ComponentLink1Description: Manufacturer; ComponentLink1URL: http://www.we-online.de; ComponentLink2URL: https://katalog.we-online.de/em/datasheet/691413720012B.pdf; ComponentLink2Description: Datasheet; Mounting Technology: THT; Packaging: Box; Operating Temperature: -40 to +115degC; Pitch: 5mm; Published Date: October 2019; Type: 45deg; Publisher: Wurth Elektronik; Application: Screwless
footprint 691413720012B
pins: 1, 2, 3, 4, 5, 6, 7, 8, 9, 10, 11, 12

## 691414720002B
designator J?
WR-TBL Serie 4147B 45deg Entry, Screwless, pitch 5mm, 2p; Part Number: 691414720002B; Compliance: RoHS; Modularity: No; PCB/Cable/Panel: PCB; Pin Number: 2; Rated Current [UL]: 16A; Working Voltage [UL]: 300VAC; ComponentLink1Description: Manufacturer; ComponentLink1URL: http://www.we-online.de; ComponentLink2URL: https://katalog.we-online.de/em/datasheet/691414720002B.pdf; ComponentLink2Description: Datasheet; Mounting Technology: THT; Packaging: Box; Operating Temperature: -40 to +105degC; Pitch: 5mm; Published Date: October 2019; Type: 45deg; Publisher: Wurth Elektronik; Application: Screwless
footprint 691414720002B
pins: 1, 2

## 691414720003B
designator J?
WR-TBL Serie 4147B 45deg Entry, Screwless, pitch 5mm, 3p; Part Number: 691414720003B; Compliance: RoHS; Modularity: No; PCB/Cable/Panel: PCB; Pin Number: 3; Rated Current [UL]: 16A; Working Voltage [UL]: 300VAC; ComponentLink1Description: Manufacturer; ComponentLink1URL: http://www.we-online.de; ComponentLink2URL: https://katalog.we-online.de/em/datasheet/691414720003B.pdf; ComponentLink2Description: Datasheet; Mounting Technology: THT; Packaging: Box; Operating Temperature: -40 to +105degC; Pitch: 5mm; Published Date: October 2019; Type: 45deg; Publisher: Wurth Elektronik; Application: Screwless
footprint 691414720003B
pins: 1, 2, 3

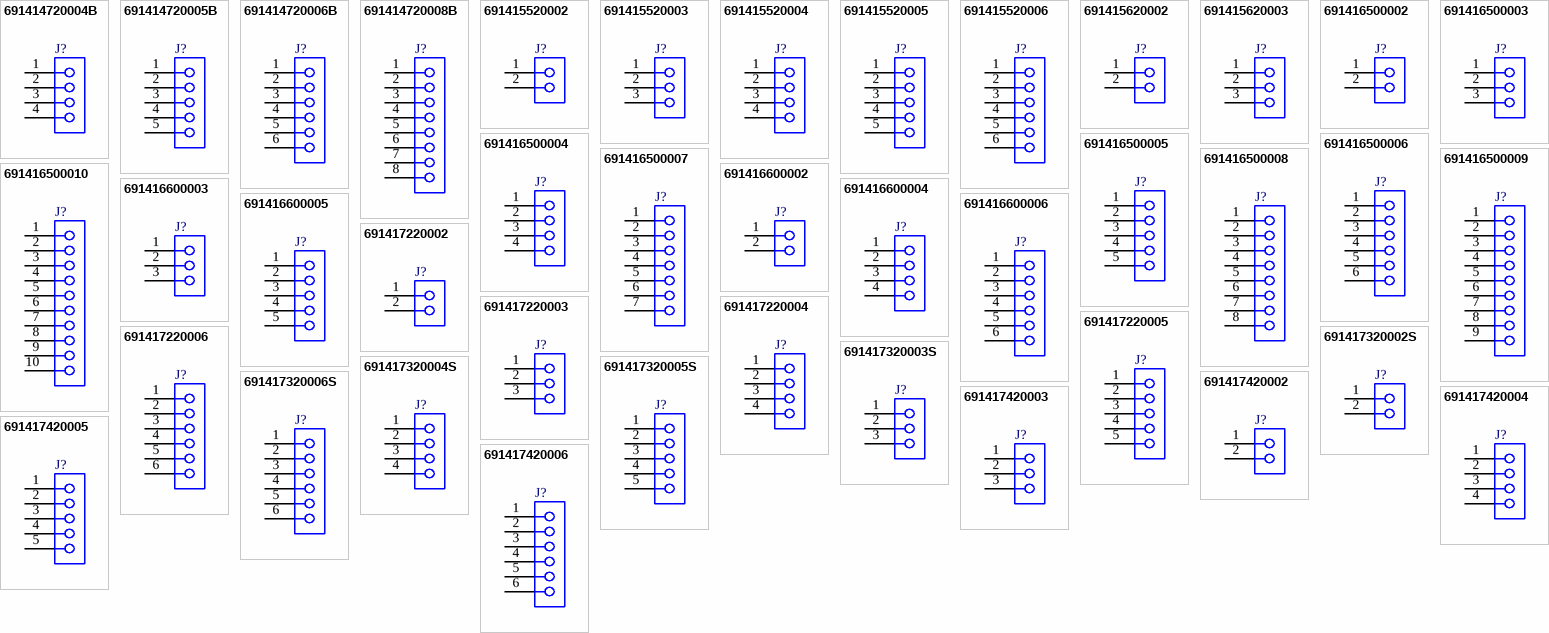
[diagram p5: symbols 691414720004B to 691417420006]

## 691414720004B
designator J?
WR-TBL Serie 4147B 45deg Entry, Screwless, pitch 5mm, 4p; Part Number: 691414720004B; Compliance: RoHS; Modularity: No; PCB/Cable/Panel: PCB; Pin Number: 4; Rated Current [UL]: 16A; Working Voltage [UL]: 300VAC; ComponentLink1Description: Manufacturer; ComponentLink1URL: http://www.we-online.de; ComponentLink2URL: https://katalog.we-online.de/em/datasheet/691414720004B.pdf; ComponentLink2Description: Datasheet; Mounting Technology: THT; Packaging: Box; Operating Temperature: -40 to +105degC; Pitch: 5mm; Published Date: October 2019; Type: 45deg; Publisher: Wurth Elektronik; Application: Screwless
footprint 691414720004B
pins: 1, 2, 3, 4

## 691414720005B
designator J?
WR-TBL Serie 4147B 45deg Entry, Screwless, pitch 5mm, 5p; Part Number: 691414720005B; Compliance: RoHS; Modularity: No; PCB/Cable/Panel: PCB; Pin Number: 5; Rated Current [UL]: 16A; Working Voltage [UL]: 300VAC; ComponentLink1Description: Manufacturer; ComponentLink1URL: http://www.we-online.de; ComponentLink2URL: https://katalog.we-online.de/em/datasheet/691414720005B.pdf; ComponentLink2Description: Datasheet; Mounting Technology: THT; Packaging: Box; Operating Temperature: -40 to +105degC; Pitch: 5mm; Published Date: October 2019; Type: 45deg; Publisher: Wurth Elektronik; Application: Screwless
footprint 691414720005B
pins: 1, 2, 3, 4, 5

## 691414720006B
designator J?
WR-TBL Serie 4147B 45deg Entry, Screwless, pitch 5mm, 6p; Part Number: 691414720006B; Compliance: RoHS; Modularity: No; PCB/Cable/Panel: PCB; Pin Number: 6; Rated Current [UL]: 16A; Working Voltage [UL]: 300VAC; ComponentLink1Description: Manufacturer; ComponentLink1URL: http://www.we-online.de; ComponentLink2URL: https://katalog.we-online.de/em/datasheet/691414720006B.pdf; ComponentLink2Description: Datasheet; Mounting Technology: THT; Packaging: Box; Operating Temperature: -40 to +105degC; Pitch: 5mm; Published Date: October 2019; Type: 45deg; Publisher: Wurth Elektronik; Application: Screwless
footprint 691414720006B
pins: 1, 2, 3, 4, 5, 6

## 691414720008B
designator J?
WR-TBL Serie 4147B 45deg Entry, Screwless, pitch 5mm, 8p; Part Number: 691414720008B; Compliance: RoHS; Modularity: No; PCB/Cable/Panel: PCB; Pin Number: 8; Rated Current [UL]: 16A; Working Voltage [UL]: 300VAC; ComponentLink1Description: Manufacturer; ComponentLink1URL: http://www.we-online.de; ComponentLink2URL: https://katalog.we-online.de/em/datasheet/691414720008B.pdf; ComponentLink2Description: Datasheet; Mounting Technology: THT; Packaging: Box; Operating Temperature: -40 to +105degC; Pitch: 5mm; Published Date: October 2019; Type: 45deg; Publisher: Wurth Elektronik; Application: Screwless
footprint 691414720008B
pins: 1, 2, 3, 4, 5, 6, 7, 8

## 691415520002
designator J?
WR-TBL Serie 4155 45deg Entry, Screwless, pitch 5.08mm, 2p; Part Number: 691415520002; Compliance: ROHS & Reach; Modularity: No; PCB/Cable/Panel: PCB; Pin Number: 2; Rated Current [UL]: 10A; Working Voltage [UL]: 300VAC; ComponentLink1Description: Manufacturer; ComponentLink1URL: http://www.we-online.de; ComponentLink2URL: https://katalog.we-online.de/em/datasheet/691415520002.pdf; ComponentLink2Description: Datasheet; Mounting Technology: THT; Packaging: Box; Operating Temperature: -30 to +120degC; Pitch: 5.08mm; Published Date: October 2019; Type: 45deg; Publisher: Wurth Elektronik; Application: Screwless
footprint 691415520002
pins: 1, 2

## 691415520003
designator J?
WR-TBL Serie 4155 45deg Entry, Screwless, pitch 5.08mm, 3p; Part Number: 691415520003; Compliance: ROHS & Reach; Modularity: No; PCB/Cable/Panel: PCB; Pin Number: 3; Rated Current [UL]: 10A; Working Voltage [UL]: 300VAC; ComponentLink1Description: Manufacturer; ComponentLink1URL: http://www.we-online.de; ComponentLink2URL: https://katalog.we-online.de/em/datasheet/691415520003.pdf; ComponentLink2Description: Datasheet; Mounting Technology: THT; Packaging: Box; Operating Temperature: -30 to +120degC; Pitch: 5.08mm; Published Date: October 2019; Type: 45deg; Publisher: Wurth Elektronik; Application: Screwless
footprint 691415520003
pins: 1, 2, 3

## 691415520004
designator J?
WR-TBL Serie 4155 45deg Entry, Screwless, pitch 5.08mm, 4p; Part Number: 691415520004; Compliance: ROHS & Reach; Modularity: No; PCB/Cable/Panel: PCB; Pin Number: 4; Rated Current [UL]: 10A; Working Voltage [UL]: 300VAC; ComponentLink1Description: Manufacturer; ComponentLink1URL: http://www.we-online.de; ComponentLink2URL: https://katalog.we-online.de/em/datasheet/691415520004.pdf; ComponentLink2Description: Datasheet; Mounting Technology: THT; Packaging: Box; Operating Temperature: -30 to +120degC; Pitch: 5.08mm; Published Date: October 2019; Type: 45deg; Publisher: Wurth Elektronik; Application: Screwless
footprint 691415520004
pins: 1, 2, 3, 4

## 691415520005
designator J?
WR-TBL Serie 4155 45deg Entry, Screwless, pitch 5.08mm, 5p; Part Number: 691415520005; Compliance: ROHS & Reach; Modularity: No; PCB/Cable/Panel: PCB; Pin Number: 5; Rated Current [UL]: 10A; Working Voltage [UL]: 300VAC; ComponentLink1Description: Manufacturer; ComponentLink1URL: http://www.we-online.de; ComponentLink2URL: https://katalog.we-online.de/em/datasheet/691415520005.pdf; ComponentLink2Description: Datasheet; Mounting Technology: THT; Packaging: Box; Operating Temperature: -30 to +120degC; Pitch: 5.08mm; Published Date: October 2019; Type: 45deg; Publisher: Wurth Elektronik; Application: Screwless
footprint 691415520005
pins: 1, 2, 3, 4, 5

## 691415520006
designator J?
WR-TBL Serie 4155 45deg Entry, Screwless, pitch 5.08mm, 6p; Part Number: 691415520006; Compliance: ROHS & Reach; Modularity: No; PCB/Cable/Panel: PCB; Pin Number: 6; Rated Current [UL]: 10A; Working Voltage [UL]: 300VAC; ComponentLink1Description: Manufacturer; ComponentLink1URL: http://www.we-online.de; ComponentLink2URL: https://katalog.we-online.de/em/datasheet/691415520006.pdf; ComponentLink2Description: Datasheet; Mounting Technology: THT; Packaging: Box; Operating Temperature: -30 to +120degC; Pitch: 5.08mm; Published Date: October 2019; Type: 45deg; Publisher: Wurth Elektronik; Application: Screwless
footprint 691415520006
pins: 1, 2, 3, 4, 5, 6

## 691415620002
designator J?
WR-TBL Serie 4156 45deg Entry, Screwless, pitch 10.16mm, 2p; Part Number: 691415620002; Compliance: RoHS; Modularity: No; PCB/Cable/Panel: PCB; Pin Number: 2; Rated Current [UL]: 10A; Working Voltage [UL]: 300VAC; ComponentLink1Description: Manufacturer; ComponentLink1URL: http://www.we-online.de; ComponentLink2URL: https://katalog.we-online.de/em/datasheet/691415620002.pdf; ComponentLink2Description: Datasheet; Mounting Technology: THT; Packaging: Box; Operating Temperature: -30 to +120degC; Pitch: 10.16mm; Published Date: October 2019; Type: 45deg; Publisher: Wurth Elektronik; Application: Screwless
footprint 691415620002
pins: 1, 2

## 691415620003
designator J?
WR-TBL Serie 4156 45deg Entry, Screwless, pitch 10.16mm, 3p; Part Number: 691415620003; Compliance: RoHS; Modularity: No; PCB/Cable/Panel: PCB; Pin Number: 3; Rated Current [UL]: 10A; Working Voltage [UL]: 300VAC; ComponentLink1Description: Manufacturer; ComponentLink1URL: http://www.we-online.de; ComponentLink2URL: https://katalog.we-online.de/em/datasheet/691415620003.pdf; ComponentLink2Description: Datasheet; Mounting Technology: THT; Packaging: Box; Operating Temperature: -30 to +120degC; Pitch: 10.16mm; Published Date: October 2019; Type: 45deg; Publisher: Wurth Elektronik; Application: Screwless
footprint 691415620003
pins: 1, 2, 3

## 691416500002
designator J?
WR-TBL Serie 4165 Vertical Entry, Screwless, pitch 5.08mm, 2p; Part Number: 691416500002; Compliance: Lead free / RoHS; Modularity: No; PCB/Cable/Panel: PCB; Pin Number: 2; Rated Current [UL]: 10A; Working Voltage [UL]: 300VAC; ComponentLink1Description: Manufacturer; ComponentLink1URL: http://www.we-online.de; ComponentLink2URL: https://katalog.we-online.de/em/datasheet/691416500002.pdf; ComponentLink2Description: Datasheet; Mounting Technology: THT; Packaging: Box; Operating Temperature: -30 to +120degC; Pitch: 5.08mm; Published Date: October 2019; Type: Vertical; Publisher: Wurth Elektronik; Application: Screwless
footprint 691416500002
pins: 1, 2